# EAGLE library part MICRO-FIT_3.0_9POS_VERT_THRU (library Schuyler)
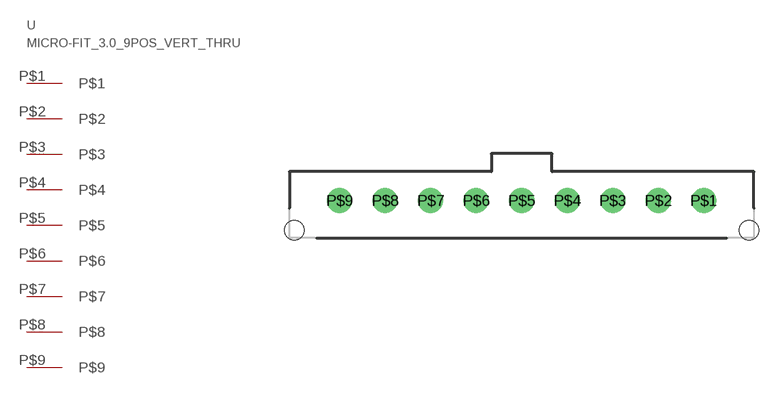
[diagram p6: symbol with the pads of MICRO-FIT_3.0-9POS_VERT_THROUGH; footprint MICRO-FIT_3.0-9POS_VERT_THROUGH]

Designator prefix -

## MICRO-FIT_3.0_9POS_VERT_THRU  [MICRO-FIT_3.0-9POS_VERT_THROUGH]
P$1  P$1
P$2  P$2
P$3  P$3
P$4  P$4
P$5  P$5
P$6  P$6
P$7  P$7
P$8  P$8
P$9  P$9

## Footprint MICRO-FIT_3.0-9POS_VERT_THROUGH (pad centres in mm)
drill 1.1: P$1 12,0; P$2 9,0; P$3 6,0; P$4 3,0; P$5 0,0; P$6 -3,0; P$7 -6,0; P$8 -9,0; P$9 -12,0
hole 1.27 at 15,-1.96
hole 1.27 at -15,-1.96